# Altium footprint library CONN_jk.PcbLib: 55 footprints (part 2 of 4)
Each footprint in its own frame and in the unit in brackets; x right, y up, seen from the top. Pads: shape width x height; smd on the part's side, far side on the other; paste and mask are expansions set on the pad; w line width, h text height; cw(c..) or ccw(c..) is an arc to the next point about the centre after c.
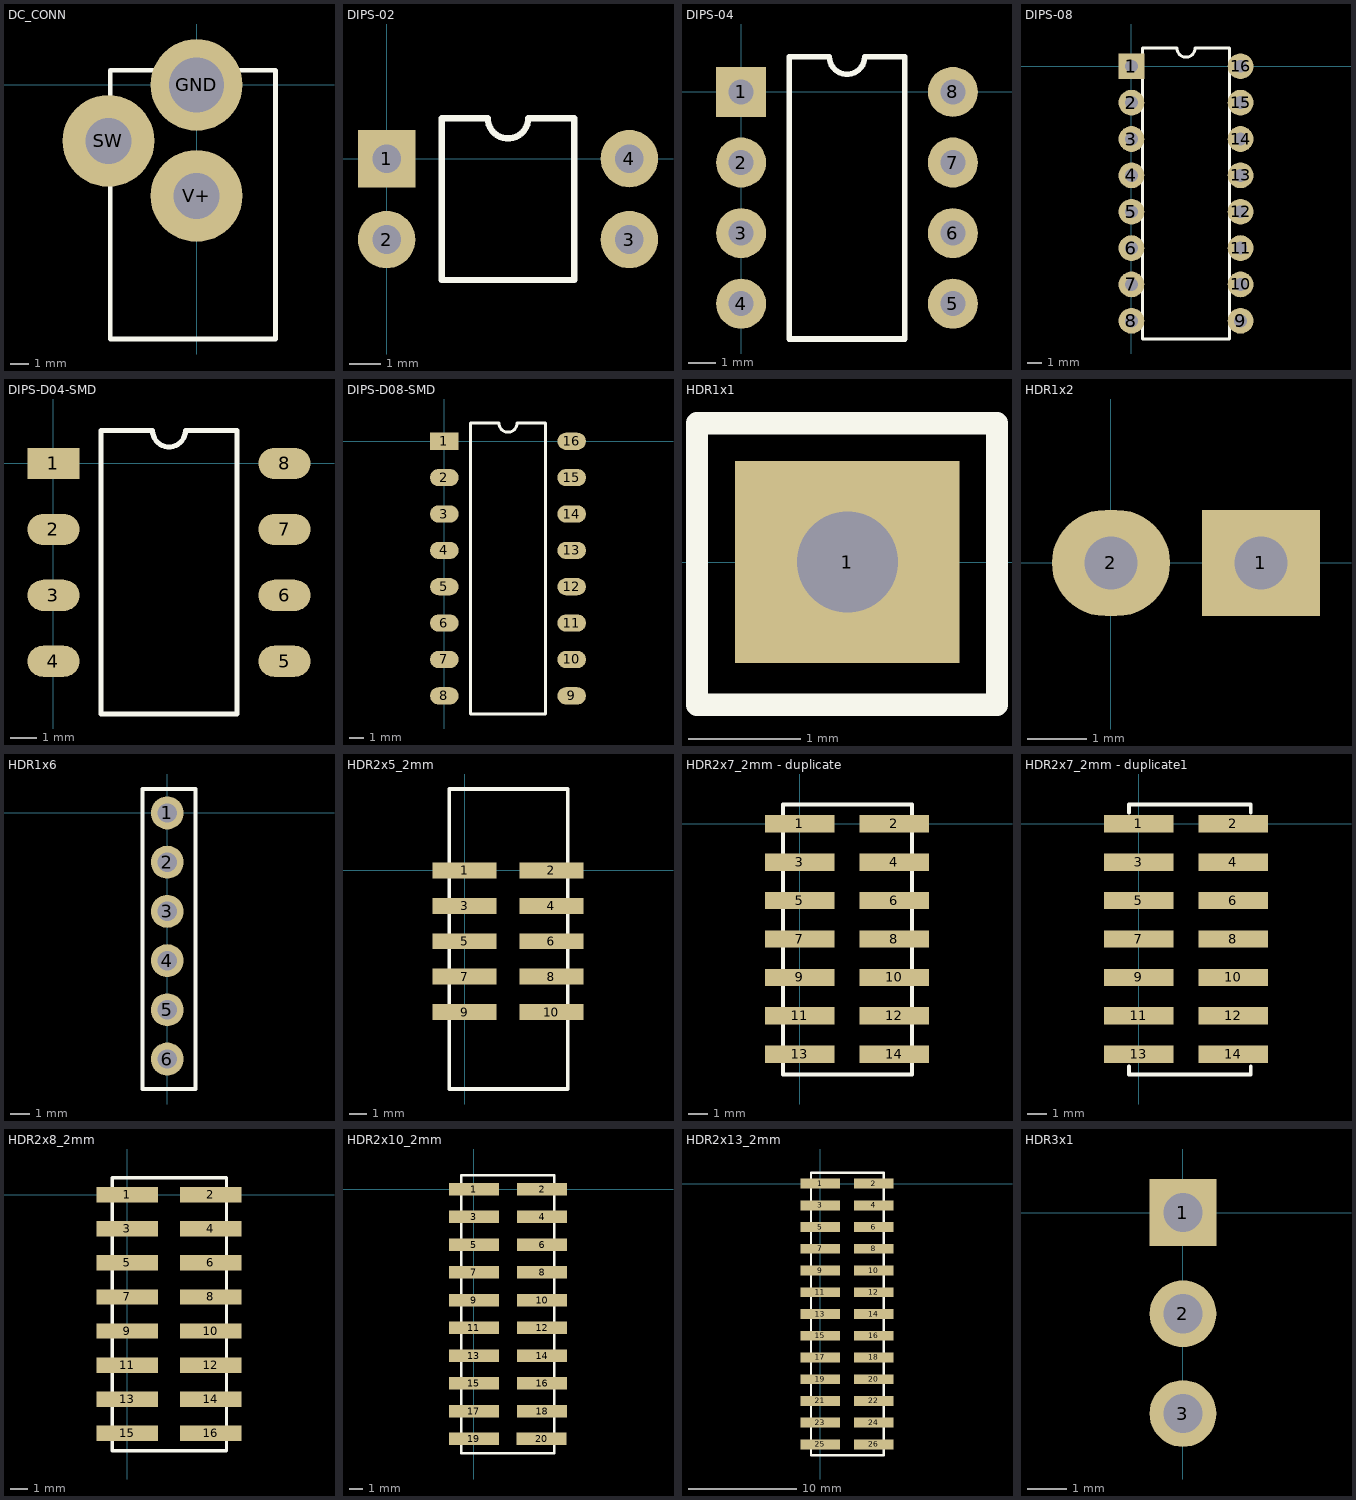
[diagram p1: the footprints below, top view; thin cyan lines are the x and y axes]

## DC_CONN [mm]
pads (3):
  round 5 hole 3: GND(0,0)
  round 5 hole 2.5: SW(-4.8,-3.05) V+(0,-6.05)
Top Overlay:
  lines w0.254: -4.699,-13.846 4.299,-13.846 4.299,0.8 -4.699,0.8 -4.699,-13.846

## DIPS-02 [mm]
pads (4):
  rect 1.8x1.8 / inner rect 2.5x1.2 / far side rect 1.8x1.8 hole 0.9: 1(0,0)
  round 1.8 / inner oval 2.5x1.2 / far side round 1.8 hole 0.9: 2(0,-2.54) 3(7.62,-2.54) 4(7.62,0)
Top Overlay:
  lines w0.2: 1.735,-3.81 5.885,-3.81 5.885,1.27 4.445,1.27 cw(c3.81,1.27) 3.175,1.27 1.735,1.27 1.735,-3.81

## DIPS-04 [mm]
pads (8):
  rect 1.8x1.8 / inner rect 2.5x1.2 / far side rect 1.8x1.8 hole 0.9: 1(0,0)
  round 1.8 / inner oval 2.5x1.2 / far side round 1.8 hole 0.9: 2(0,-2.54) 3(0,-5.08) 4(0,-7.62) 5(7.62,-7.62) 6(7.62,-5.08) 7(7.62,-2.54) 8(7.62,0)
Top Overlay:
  lines w0.2: 1.735,-8.89 5.885,-8.89 5.885,1.27 4.445,1.27 cw(c3.81,1.27) 3.175,1.27 1.735,1.27 1.735,-8.89

## DIPS-08 [mm]
pads (16):
  rect 1.8x1.8 / inner rect 2.5x1.2 / far side rect 1.8x1.8 hole 0.9: 1(0,0)
  round 1.8 / inner oval 2.5x1.2 / far side round 1.8 hole 0.9: 2(0,-2.54) 3(0,-5.08) 4(0,-7.62) 5(0,-10.16) 6(0,-12.7) 7(0,-15.24) 8(0,-17.78) 9(7.62,-17.78) 10(7.62,-15.24) 11(7.62,-12.7) 12(7.62,-10.16) 13(7.62,-7.62) 14(7.62,-5.08) 15(7.62,-2.54) 16(7.62,0)
Top Overlay:
  lines w0.2: 0.762,-19.05 0.762,1.27 3.175,1.27 ccw(c3.81,1.27) 4.445,1.27 6.858,1.27 6.858,-19.05 0.762,-19.05

## DIPS-D04-SMD [mm]
pads (8):
  rect 2x1.2 smd: 1(0,0)
  oval 2x1.2 smd: 2(0,-2.54) 3(0,-5.08) 4(0,-7.62) 5(8.9,-7.62) 6(8.9,-5.08) 7(8.9,-2.54) 8(8.9,0)
Top Overlay:
  lines w0.2: 1.835,-9.652 1.835,1.27 3.815,1.27 ccw(c4.45,1.27) 5.085,1.27 7.065,1.27 7.065,-9.652 1.835,-9.652

## DIPS-D08-SMD [mm]
pads (16):
  rect 2x1.2 smd: 1(0,0)
  oval 2x1.2 smd: 2(0,-2.54) 3(0,-5.08) 4(0,-7.62) 5(0,-10.16) 6(0,-12.7) 7(0,-15.24) 8(0,-17.78) 9(8.9,-17.78) 10(8.9,-15.24) 11(8.9,-12.7) 12(8.9,-10.16) 13(8.9,-7.62) 14(8.9,-5.08) 15(8.9,-2.54) 16(8.9,0)
Top Overlay:
  lines w0.2: 1.835,-19.05 7.065,-19.05 7.065,1.27 5.085,1.27 cw(c4.45,1.27) 3.815,1.27 1.835,1.27 1.835,-19.05

## HDR1x1 [mm]
pads (1):
  rect 2x1.8 hole 0.9: 1(2.54,0)
Top Overlay:
  lines w0.2: 1.2,-1.27 3.874,-1.27 3.874,1.236 1.2,1.236 1.2,-1.27

## HDR1x2 [mm]
pads (2):
  rect 2x1.8 hole 0.9: 1(2.54,0)
  oval 2x1.8 hole 0.9: 2(0,0)
Bottom Overlay:
  lines w0.2: -1.27,-1.27 -1.27,1.236 3.81,1.236 3.81,-1.27 -1.27,-1.27

## HDR1x6 [mm]
pads (6):
  round 1.7 hole 1: 1(0,0) 2(0,-2.54) 3(0,-5.08) 4(0,-7.62) 5(0,-10.16) 6(0,-12.7)
Top Overlay:
  lines w0.2: -1.27,-14.246 -1.27,1.236 1.45,1.236 1.45,-14.246 -1.27,-14.246

## HDR2x5_2mm [mm]
pads (10):
  rect 3.615x0.9 smd: 1(0,0) 2(4.9,0) 3(0,-2) 4(4.9,-2) 5(0,-4) 6(4.9,-4) 7(0,-6) 8(4.9,-6) 9(0,-8) 10(4.9,-8)
Top Overlay:
  lines w0.2: -0.875,-12.347 5.825,-12.347 5.825,4.599 -0.875,4.599 -0.875,-12.347

## HDR2x7_2mm - duplicate [mm]
pads (14):
  rect 3.615x0.9 smd: 1(0,0) 2(4.9,0) 3(0,-2) 4(4.9,-2) 5(0,-4) 6(4.9,-4) 7(0,-6) 8(4.9,-6) 9(0,-8) 10(4.9,-8) 11(0,-10) 12(4.9,-10) 13(0,-12) 14(4.9,-12)
Top Overlay:
  lines w0.2: -0.875,0.95 -0.875,-13.05 5.825,-13.05 5.825,1 ; -0.875,1 5.8,1

## HDR2x7_2mm - duplicate1 [mm]
pads (14):
  rect 3.615x0.9 smd: 1(0,0) 2(4.9,0) 3(0,-2) 4(4.9,-2) 5(0,-4) 6(4.9,-4) 7(0,-6) 8(4.9,-6) 9(0,-8) 10(4.9,-8) 11(0,-10) 12(4.9,-10) 13(0,-12) 14(4.9,-12)
Top Overlay:
  lines w0.2: -0.525,-12.622 -0.525,-13.05 5.824,-13.05 5.824,-12.622 ; -0.525,0.575 -0.525,1 5.824,1 5.824,0.575

## HDR2x8_2mm [mm]
pads (16):
  rect 3.615x0.9 smd: 1(0,0) 2(4.9,0) 3(0,-2) 4(4.9,-2) 5(0,-4) 6(4.9,-4) 7(0,-6) 8(4.9,-6) 9(0,-8) 10(4.9,-8) 11(0,-10) 12(4.9,-10) 13(0,-12) 14(4.9,-12) 15(0,-14) 16(4.9,-14)
Top Overlay:
  lines w0.2: -0.875,0.95 -0.875,-15.025 5.825,-15.025 5.825,1 ; -0.875,1 5.8,1

## HDR2x10_2mm [mm]
pads (20):
  rect 3.615x0.9 smd: 1(0,0) 2(4.9,0) 3(0,-2) 4(4.9,-2) 5(0,-4) 6(4.9,-4) 7(0,-6) 8(4.9,-6) 9(0,-8) 10(4.9,-8) 11(0,-10) 12(4.9,-10) 13(0,-12) 14(4.9,-12) 15(0,-14) 16(4.9,-14) 17(0,-16) 18(4.9,-16) 19(0,-18) 20(4.875,-18)
Top Overlay:
  lines w0.2: -0.925,1 -0.925,-19.025 5.775,-19.025 5.775,0.95 ; -0.9,1 5.775,1

## HDR2x13_2mm [mm]
pads (26):
  rect 3.615x0.9 smd: 1(0,0) 2(4.9,0) 3(0,-2) 4(4.9,-2) 5(0,-4) 6(4.9,-4) 7(0,-6) 8(4.9,-6) 9(0,-8) 10(4.9,-8) 11(0,-10) 12(4.9,-10) 13(0,-12) 14(4.9,-12) 15(0,-14) 16(4.9,-14) 17(0,-16) 18(4.9,-16) 19(0,-18) 20(4.9,-18) 21(0,-20) 22(4.9,-20) 23(0,-22) 24(4.9,-22) 25(0,-24) 26(4.9,-24)
Top Overlay:
  lines w0.2: -0.875,0.95 -0.875,-25 5.825,-25 5.825,1 ; -0.875,1 5.8,1

## HDR3x1 [mm]
pads (3):
  rect 1.7x1.7 hole 1: 1(0,0)
  round 1.7 hole 1: 2(0,-2.574) 3(0,-5.114)
Bottom Overlay:
  lines w0.2: -1.27,-6.398 1.425,-6.398 1.425,1.236 -1.27,1.236 -1.27,-6.398